# Altium footprint library Inductor_SMD.PcbLib: 587 footprints (part 6 of 37)
Each footprint in its own frame and in the unit in brackets; x right, y up, seen from the top. Pads: shape width x height; smd on the part's side, far side on the other; paste and mask are expansions set on the pad; w line width, h text height; cw(c..) or ccw(c..) is an arc to the next point about the centre after c.
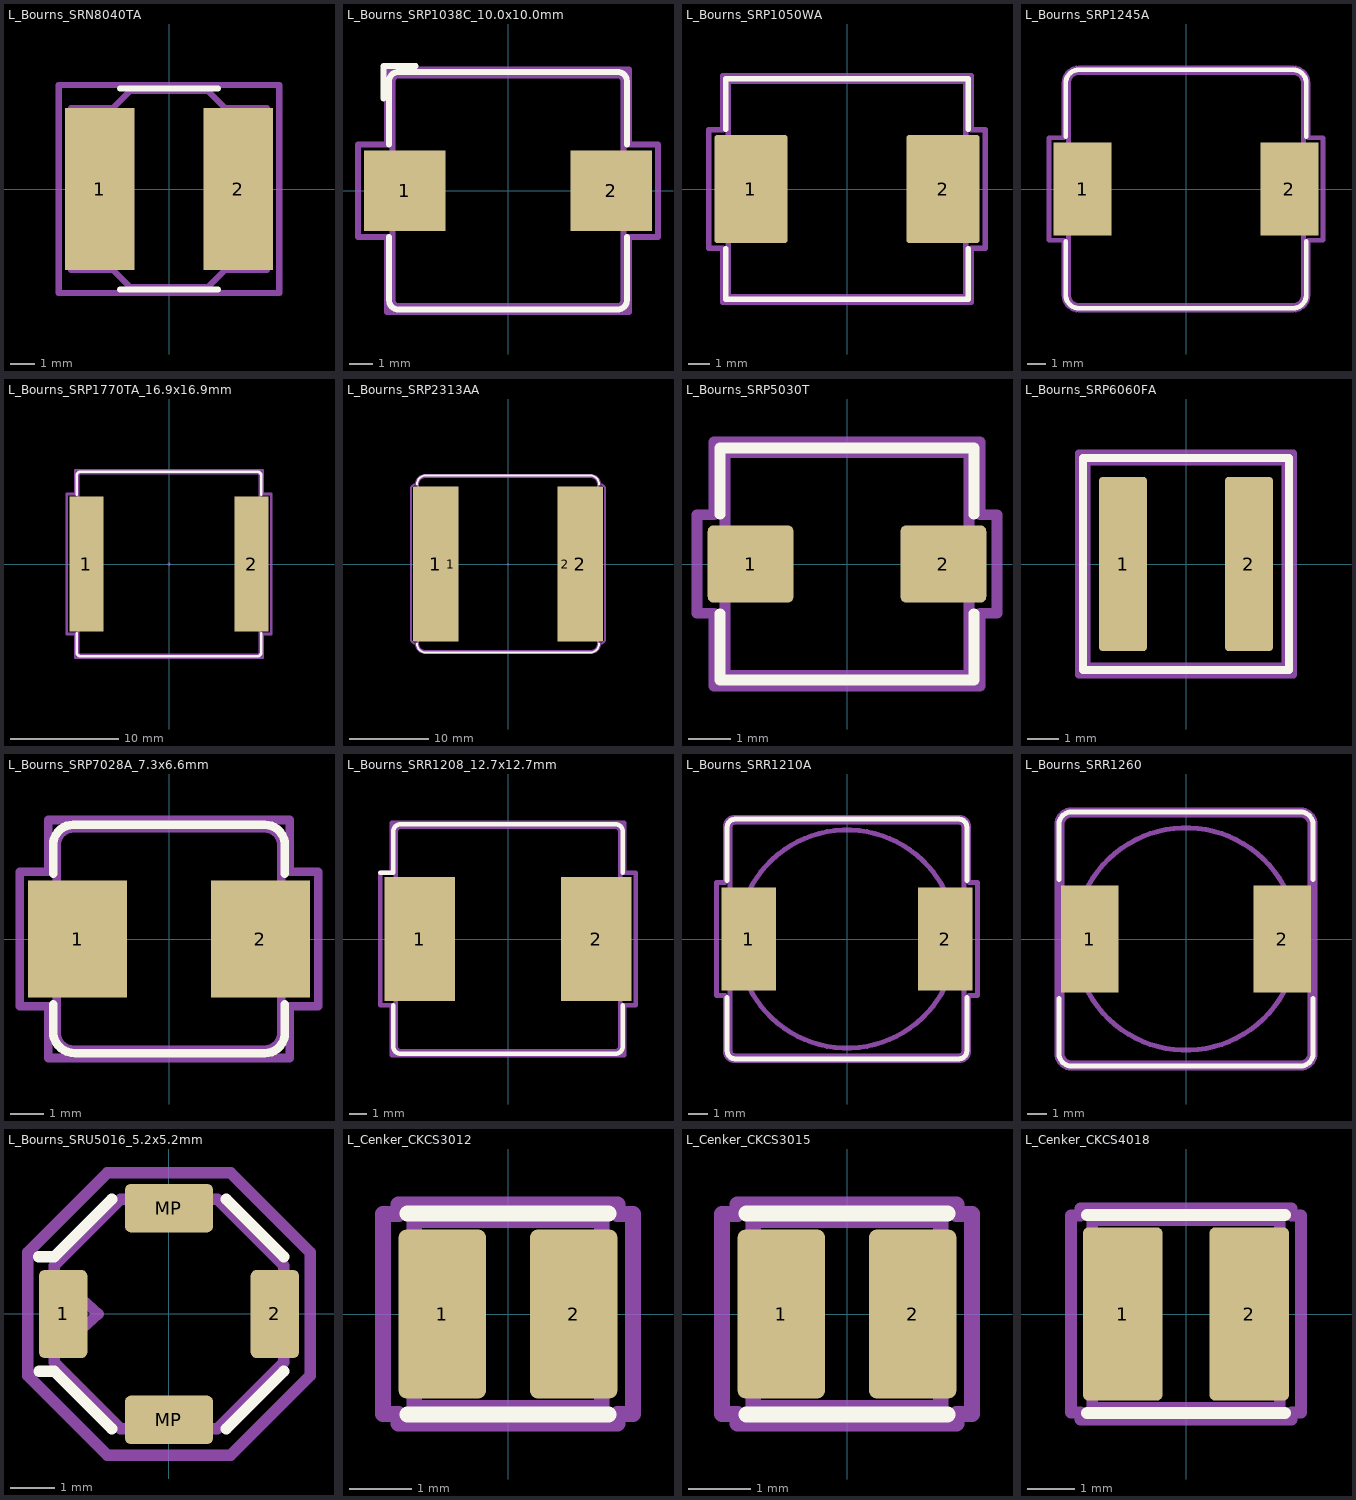
[diagram p5: the footprints below, top view; thin cyan lines are the x and y axes]

## L_Bourns_SRN8040TA [mm] "L_Bourns_SRN8040TA"
pads (2):
  rect 2.85x6.6 smd: 1(-2.825,0) 2(2.825,0)
F.SilkS:
  lines w0.254: -2,-4.1 2,-4.1 ; -2,4.1 2,4.1
Top Assembly:
  lines w0.254: -4,-3.3 -2.3,-3.3 -1.6,-4 1.6,-4 2.3,-3.3 4,-3.3 4,3.3 2.3,3.3 1.6,4 -1.6,4 -2.3,3.3 -4,3.3 -4,-3.3
Top Courtyard:
  lines w0.254: -4.5,-4.25 4.5,-4.25 4.5,4.25 -4.5,4.25 -4.5,-4.25
Top Designator:
  text ".Designator" at -3.434,-0.345 h1.52

## L_Bourns_SRP1038C_10.0x10.0mm [mm] "L_Bourns_SRP1038C_10.0x10.0mm"
pads (2):
  rect 3.55x3.5 smd: 1(-4.475,0) 2(4.475,0)
F.SilkS:
  lines w0.254: -5.4,4 -5.4,5.4 -4,5.4 ; -5.15,-2 -5.15,-4.75 ccw(c-4.75,-4.75) -4.75,-5.15 4.75,-5.15 ccw(c4.75,-4.75) 5.15,-4.75 5.15,-2 ; -5.15,2 -5.15,4.75 cw(c-4.75,4.75) -4.75,5.15 4.75,5.15 cw(c4.75,4.75) 5.15,4.75 5.15,2
Top Assembly:
  lines w0.254: -5,-4.75 ccw(c-4.75,-4.75) -4.75,-5 4.75,-5 ccw(c4.75,-4.75) 5,-4.75 5,4.75 ccw(c4.75,4.75) 4.75,5 -4.75,5 ccw(c-4.75,4.75) -5,4.75 -5,-4.75
Top Courtyard:
  lines w0.254: -6.5,-2 -6.5,2 -5.25,2 -5.25,5.25 5.25,5.25 5.25,2 6.5,2 6.5,-2 5.25,-2 5.25,-5.25 -5.25,-5.25 -5.25,-2 -6.5,-2
Top Designator:
  text ".Designator" at -3.434,-0.345 h1.52

## L_Bourns_SRP1050WA [mm] "L_Bourns_SRP1050WA"
pads (2):
  rrect7% 3.4x5 smd: 1(-4.45,0) 2(4.45,0)
F.SilkS:
  lines w0.254: -5.61,-2.76 -5.61,-5.11 5.61,-5.11 5.61,-2.76 ; -5.61,2.76 -5.61,5.11 5.61,5.11 5.61,2.76
Top Assembly:
  lines w0.254: -5.5,-5 5.5,-5 5.5,5 -5.5,5 -5.5,-5
Top Courtyard:
  lines w0.254: -6.4,-2.75 -5.75,-2.75 -5.75,-5.25 5.75,-5.25 5.75,-2.75 6.4,-2.75 6.4,2.75 5.75,2.75 5.75,5.25 -5.75,5.25 -5.75,2.75 -6.4,2.75 -6.4,-2.75
Top Designator:
  text ".Designator" at -3.434,-0.345 h1.52
3D body "L_Bourns_SRP1050WA.step": height 5.1, standoff 0, extent -5.51,-5 5.51,5

## L_Bourns_SRP1245A [mm] "L_Bourns_SRP1245A"
pads (2):
  rect 3.1x5 smd: 1(-5.55,0) 2(5.55,0)
F.SilkS:
  lines w0.254: -6.45,-2.8 -6.45,-5.7 ccw(c-5.75,-5.7) -5.75,-6.4 5.75,-6.4 ccw(c5.75,-5.7) 6.45,-5.7 6.45,-2.8 ; -6.45,2.8 -6.45,5.75 ; -6.45,5.7 cw(c-5.75,5.7) -5.75,6.4 5.75,6.4 cw(c5.75,5.7) 6.45,5.7 6.45,2.8
Top Assembly:
  lines w0.254: -6.3,5.7 cw(c-5.75,5.7) -5.75,6.25 5.75,6.25 cw(c5.75,5.7) 6.3,5.7 6.3,-5.7 cw(c5.75,-5.7) 5.75,-6.25 -5.75,-6.25 cw(c-5.75,-5.7) -6.3,-5.7 -6.3,5.75
Top Courtyard:
  lines w0.254: -7.35,-2.75 -7.35,2.75 -6.55,2.75 -6.55,5.7 cw(c-5.75,5.7) -5.75,6.5 5.75,6.5 cw(c5.75,5.7) 6.55,5.7 6.55,2.75 7.35,2.75 7.35,-2.75 6.55,-2.75 6.55,-5.7 cw(c5.75,-5.7) 5.75,-6.5 -5.75,-6.5 cw(c-5.75,-5.7) -6.55,-5.7 -6.55,-2.75 -7.35,-2.75
Top Designator:
  text ".Designator" at -3.434,-0.345 h1.52

## L_Bourns_SRP1770TA_16.9x16.9mm [mm] "L_Bourns_SRP1770TA_16.9x16.9mm"
pads (2):
  rect 3.15x12.5 smd: 1(-7.675,0) 2(7.675,0)
F.SilkS:
  lines w0.254: -8.57,-8.23 ccw(c-8.2,-8.2) -8.2,-8.571 ; -8.57,-8.2 -8.57,-6.45 ; -8.57,6.45 -8.57,8.2 cw(c-8.2,8.2) -8.2,8.57 8.2,8.57 ; -8.2,-8.57 8.2,-8.57 ; 8.19,-8.57 ccw(c8.2,-8.2) 8.57,-8.2 8.57,-6.45 ; 8.209,8.57 cw(c8.2,8.2) 8.57,8.2 8.57,6.45
Top Component Center:
  lines w0.127: -0.123,-0.023 0.131,-0.023 ; 0.004,-0.15 0.004,0.104
Top Assembly:
  lines w0.254: -8.45,-8.15 ccw(c-8.15,-8.15) -8.15,-8.45 8.15,-8.45 ccw(c8.15,-8.15) 8.45,-8.15 8.45,8.15 ccw(c8.15,8.15) 8.15,8.45 -8.15,8.45 ccw(c-8.15,8.15) -8.45,8.15 -8.45,-8.15
Top Courtyard:
  lines w0.254: -9.5,-6.5 -9.5,6.5 -8.7,6.5 -8.7,8.7 8.7,8.7 8.7,6.5 9.5,6.5 9.5,-6.5 8.7,-6.5 8.7,-8.7 -8.7,-8.7 -8.7,-6.5 -9.5,-6.5
Top Designator:
  text ".Designator" at -3.434,-0.345 h1.52

## L_Bourns_SRP2313AA [mm] "L_Bourns_SRP2313AA"
pads (4):
  rrect7% 5.75x19.6 smd: 1(-9.125,0) 2(9.125,0)
  rect 2x19.6 smd: 1(-7.25,0) 2(7.25,0)
F.SilkS:
  lines w0.254: -11.5,-10.05 ccw(c-10.4,-10.05) -10.4,-11.15 10.4,-11.15 ccw(c10.4,-10.05) 11.5,-10.05 ; -11.5,10.05 cw(c-10.4,10.05) -10.4,11.15 10.4,11.15 cw(c10.4,10.05) 11.5,10.05
Top Component Center:
  lines w0.127: -0.123,-0.023 0.131,-0.023 ; 0.004,-0.15 0.004,0.104
Top Assembly:
  lines w0.254: -11.35,-10.05 ccw(c-10.4,-10.05) -10.4,-11 10.4,-11 ccw(c10.4,-10.05) 11.35,-10.05 11.35,10.05 ccw(c10.4,10.05) 10.4,11 -10.4,11 ccw(c-10.4,10.05) -11.35,10.05 -11.35,-10.05
Top Courtyard:
  lines w0.254: -12.25,-9.4 ccw(c-11.6,-9.4) -11.6,-10.05 ccw(c-10.4,-10.05) -10.4,-11.25 10.4,-11.25 ccw(c10.4,-10.05) 11.6,-10.05 ccw(c11.6,-9.4) 12.25,-9.4 12.25,9.4 ccw(c11.6,9.4) 11.6,10.05 ccw(c10.4,10.05) 10.4,11.25 -10.4,11.25 ccw(c-10.4,10.05) -11.6,10.05 ccw(c-11.6,9.4) -12.25,9.4 -12.25,-9.4
Top Designator:
  text ".Designator" at -3.434,-0.345 h1.52
3D body "L_Bourns_SRP2313AA.step": height 12.6, standoff 0, extent -11.75,-11 11.75,11

## L_Bourns_SRP5030T [mm] "L_Bourns_SRP5030T"
pads (2):
  rrect14% 2x1.8 smd: 1(-2.25,0) 2(2.25,0)
F.SilkS:
  lines w0.254: -2.96,-1.16 -2.96,-2.71 2.96,-2.71 2.96,-1.16 ; -2.96,1.16 -2.96,2.71 2.96,2.71 2.96,1.16
Top Assembly:
  lines w0.254: -2.85,-2.6 2.85,-2.6 2.85,2.6 -2.85,2.6 -2.85,-2.6
  text "'.Designator'" at -4.047,-0.84 h1
Top Courtyard:
  lines w0.254: -3.5,-1.15 -3.1,-1.15 -3.1,-2.85 3.1,-2.85 3.1,-1.15 3.5,-1.15 3.5,1.15 3.1,1.15 3.1,2.85 -3.1,2.85 -3.1,1.15 -3.5,1.15 -3.5,-1.15
Top Designator:
  text ".Designator" at -7.768,-0.508 h1.52
3D body "L_Bourns_SRP5030T.step": height 2.8, standoff 0, extent -2.86,-2.6 2.86,2.6

## L_Bourns_SRP6060FA [mm] "L_Bourns_SRP6060FA"
pads (2):
  rrect16% 1.55x5.6 smd: 1(-2.025,0) 2(2.025,0)
F.SilkS:
  lines w0.254: -3.31,-3.41 3.31,-3.41 3.31,3.41 -3.31,3.41 -3.31,-3.41
Top Assembly:
  lines w0.254: -3.2,-3.3 3.2,-3.3 3.2,3.3 -3.2,3.3 -3.2,-3.3
  text "'.Designator'" at -4.047,-0.84 h1
Top Courtyard:
  lines w0.254: -3.45,-3.55 3.45,-3.55 3.45,3.55 -3.45,3.55 -3.45,-3.55
Top Designator:
  text ".Designator" at -7.768,-0.508 h1.52
3D body "L_Bourns_SRP6060FA.step": height 5.8, standoff 0, extent -3.2,-3.3 3.2,3.3

## L_Bourns_SRP7028A_7.3x6.6mm [mm] "L_Bourns_SRP7028A_7.3x6.6mm"
pads (2):
  rect 2.95x3.5 smd: 1(-2.725,0) 2(2.725,0)
F.SilkS:
  lines w0.254: -3.46,-1.95 -3.46,-2.75 ccw(c-2.8,-2.75) -2.8,-3.41 2.85,-3.41 ccw(c2.85,-2.8) 3.46,-2.8 3.46,-1.95 ; -3.46,1.95 -3.46,2.8 cw(c-2.85,2.8) -2.85,3.41 2.85,3.41 cw(c2.85,2.8) 3.46,2.8 3.46,1.95
Top Assembly:
  lines w0.254: -3.35,-2.8 ccw(c-2.85,-2.8) -2.85,-3.3 2.85,-3.3 ccw(c2.85,-2.8) 3.35,-2.8 3.35,2.8 ccw(c2.85,2.8) 2.85,3.3 -2.85,3.3 ccw(c-2.85,2.8) -3.35,2.8 -3.35,-2.8
  text "'.Designator'" at -4.047,-0.84 h1
Top Courtyard:
  lines w0.254: -4.45,-2 -3.6,-2 -3.6,-3.55 3.6,-3.55 3.6,-2 4.45,-2 4.45,2 3.6,2 3.6,3.55 -3.6,3.55 -3.6,2 -4.45,2 -4.45,-2
Top Designator:
  text ".Designator" at -7.618,-0.508 h1.52

## L_Bourns_SRR1208_12.7x12.7mm [mm] "L_Bourns_SRR1208_12.7x12.7mm"
pads (2):
  rect 4x7 smd: 1(-5,0) 2(5,0)
F.SilkS:
  lines w0.254: -7.25,3.75 -6.5,3.75 -6.5,6.1 cw(c-6.1,6.1) -6.1,6.5 6.1,6.5 cw(c6.1,6.1) 6.5,6.1 6.5,3.75 ; -6.5,-3.75 -6.5,-6.1 ccw(c-6.1,-6.1) -6.1,-6.5 6.1,-6.5 ccw(c6.1,-6.1) 6.5,-6.1 6.5,-3.75
Top Assembly:
  lines w0.254: -6.35,-1.2 -5.15,0 -6.35,1.2 ; -6.35,-6.1 ccw(c-6.1,-6.1) -6.1,-6.35 6.1,-6.35 ccw(c6.1,-6.1) 6.35,-6.1 6.35,6.1 ccw(c6.1,6.1) 6.1,6.35 -6.1,6.35 ccw(c-6.1,6.1) -6.35,6.1 -6.35,-6.1
  text "'.Designator'" at -4.047,-0.84 h1
Top Courtyard:
  lines w0.254: -7.25,-3.75 -7.25,3.75 -6.6,3.75 -6.6,6.6 6.6,6.6 6.6,3.75 7.25,3.75 7.25,-3.75 6.6,-3.75 6.6,-6.6 -6.6,-6.6 -6.6,-3.75 -7.25,-3.75
Top Designator:
  text ".Designator" at -7.618,-0.508 h1.52

## L_Bourns_SRR1210A [mm] "L_Bourns_SRR1210A"
pads (2):
  rect 2.8x5.3 smd: 1(-5.05,0) 2(5.05,0)
F.SilkS:
  lines w0.254: -6.15,-3 -6.15,-5.75 ccw(c-5.75,-5.75) -5.75,-6.15 5.75,-6.15 ccw(c5.75,-5.75) 6.15,-5.75 6.15,-3 ; -6.15,3 -6.15,5.75 cw(c-5.75,5.75) -5.75,6.15 5.75,6.15 cw(c5.75,5.75) 6.15,5.75 6.15,3
Top Assembly:
  circle w0.254: c0,0 r5.6
  lines w0.254: -4,-2 -4,2 ; 4,-2 4,2 ; -6,-5.75 ccw(c-5.75,-5.75) -5.75,-6 5.75,-6 ccw(c5.75,-5.75) 6,-5.75 6,5.75 ccw(c5.75,5.75) 5.75,6 -5.75,6 ccw(c-5.75,5.75) -6,5.75 -6,-5.75
  text "'.Designator'" at -4.047,-0.84 h1
Top Courtyard:
  lines w0.254: -6.7,-2.9 -6.25,-2.9 -6.25,-5.75 ccw(c-5.75,-5.75) -5.75,-6.25 5.75,-6.25 ccw(c5.75,-5.75) 6.25,-5.75 6.25,-2.9 6.7,-2.9 6.7,2.9 6.25,2.9 6.25,5.75 ccw(c5.75,5.75) 5.75,6.25 -5.75,6.25 ccw(c-5.75,5.75) -6.25,5.75 -6.25,2.9 -6.7,2.9 -6.7,-2.9
Top Designator:
  text ".Designator" at -7.618,-0.508 h1.52

## L_Bourns_SRR1260 [mm] "L_Bourns_SRR1260"
pads (2):
  rect 2.9x5.4 smd: 1(-4.85,0) 2(4.85,0)
F.SilkS:
  lines w0.254: -6.4,-3 -6.4,-5.75 ccw(c-5.75,-5.75) -5.75,-6.4 5.75,-6.4 ccw(c5.75,-5.75) 6.4,-5.75 6.4,-3 ; -6.4,3 -6.4,5.75 cw(c-5.75,5.75) -5.75,6.4 5.75,6.4 cw(c5.75,5.75) 6.4,5.75 6.4,3
Top Assembly:
  circle w0.254: c0,0 r5.6
  lines w0.254: -4,-2 -4,2 ; 4,-2 4,2 ; -6.25,-5.75 ccw(c-5.75,-5.75) -5.75,-6.25 5.75,-6.25 ccw(c5.75,-5.75) 6.25,-5.75 6.25,5.75 ccw(c5.75,5.75) 5.75,6.25 -5.75,6.25 ccw(c-5.75,5.75) -6.25,5.75 -6.25,-5.75
  text "'.Designator'" at -4.047,-0.84 h1
Top Courtyard:
  lines w0.254: -6.5,-5.75 ccw(c-5.75,-5.75) -5.75,-6.5 5.75,-6.5 ccw(c5.75,-5.75) 6.5,-5.75 6.5,5.75 ccw(c5.75,5.75) 5.75,6.5 -5.75,6.5 ccw(c-5.75,5.75) -6.5,5.75 -6.5,-5.75
Top Designator:
  text ".Designator" at -7.618,-0.508 h1.52
3D body "L_Bourns_SRR1260.step": height 6, standoff 0, extent -6.25,-6.25 6.25,6.25

## L_Bourns_SRU5016_5.2x5.2mm [mm] "L_Bourns_SRU5016_5.2x5.2mm"
pads (4):
  rrect25% 1.1x2 smd: 1(-2.4,0) 2(2.4,0)
  rrect25% 2x1.1 smd: MP(0,-2.4) MP(0,2.4)
F.SilkS:
  lines w0.254: -2.96,1.3 -2.6,1.3 -1.3,2.6 ; -2.95,-1.3 -2.6,-1.3 -1.3,-2.6 ; 1.3,-2.6 2.6,-1.3 ; 1.3,2.6 2.6,1.3
Top Assembly:
  lines w0.254: -2.6,-0.9 -1.6,0 -2.6,0.9 ; -2.6,-1.1 -2.6,1.1 -1.1,2.6 1.1,2.6 2.6,1.1 2.6,-1.1 1.1,-2.6 -1.1,-2.6 -2.6,-1.1
  text "'.Designator'" at 0.84,-4.047 h1
Top Courtyard:
  lines w0.254: -3.2,-1.4 -3.2,1.4 -1.4,3.2 1.4,3.2 3.2,1.4 3.2,-1.4 1.4,-3.2 -1.4,-3.2 -3.2,-1.4
Top Designator:
  text ".Designator" at -7.618,-0.658 h1.52

## L_Cenker_CKCS3012 [mm] "L_Cenker_CKCS3012"
pads (2):
  rrect18% 1.4x2.7 smd: 1(-1.05,0) 2(1.05,0)
F.SilkS:
  lines w0.254: -1.61,-1.61 1.61,-1.61 ; -1.61,1.61 1.61,1.61
Top Assembly:
  lines w0.254: -1.5,-1.5 1.5,-1.5 1.5,1.5 -1.5,1.5 -1.5,-1.5
  text "'.Designator'" at -3.033,-0.628 h0.75
Top Courtyard:
  lines w0.254: -2,-1.6 -1.75,-1.6 -1.75,-1.75 1.75,-1.75 1.75,-1.6 2,-1.6 2,1.6 1.75,1.6 1.75,1.75 -1.75,1.75 -1.75,1.6 -2,1.6 -2,-1.6
Top Designator:
  text ".Designator" at -7.728,-0.508 h1.52
3D body "L_Cenker_CKCS3012.step": height 1.3, standoff 0, extent -1.51,-1.5 1.51,1.5

## L_Cenker_CKCS3015 [mm] "L_Cenker_CKCS3015"
pads (2):
  rrect18% 1.4x2.7 smd: 1(-1.05,0) 2(1.05,0)
F.SilkS:
  lines w0.254: -1.61,-1.61 1.61,-1.61 ; -1.61,1.61 1.61,1.61
Top Assembly:
  lines w0.254: -1.5,-1.5 1.5,-1.5 1.5,1.5 -1.5,1.5 -1.5,-1.5
  text "'.Designator'" at -3.033,-0.628 h0.75
Top Courtyard:
  lines w0.254: -2,-1.6 -1.75,-1.6 -1.75,-1.75 1.75,-1.75 1.75,-1.6 2,-1.6 2,1.6 1.75,1.6 1.75,1.75 -1.75,1.75 -1.75,1.6 -2,1.6 -2,-1.6
Top Designator:
  text ".Designator" at -7.728,-0.508 h1.52
3D body "L_Cenker_CKCS3015.step": height 1.7, standoff 0, extent -1.51,-1.5 1.51,1.5

## L_Cenker_CKCS4018 [mm] "L_Cenker_CKCS4018"
pads (2):
  rrect15% 1.7x3.7 smd: 1(-1.35,0) 2(1.35,0)
F.SilkS:
  lines w0.254: -2.11,-2.11 2.11,-2.11 ; -2.11,2.11 2.11,2.11
Top Assembly:
  lines w0.254: -2,-2 -2,2 2,2 2,-2 -2,-2
  text "'.Designator'" at -4.047,-0.84 h1
Top Courtyard:
  lines w0.254: -2.45,-2.1 -2.45,2.1 -2.25,2.1 -2.25,2.25 2.25,2.25 2.25,2.1 2.45,2.1 2.45,-2.1 2.25,-2.1 2.25,-2.25 -2.25,-2.25 -2.25,-2.1 -2.45,-2.1
Top Designator:
  text ".Designator" at -7.768,-0.508 h1.52
3D body "L_Cenker_CKCS4018.step": height 1.8, standoff 0, extent -2.01,-2 2.01,2